# Altium footprint library PcbLib.Autolabor.PcbLib: 20 footprints (part 1 of 2)
Each footprint in its own frame and in the unit in brackets; x right, y up, seen from the top. Pads: shape width x height; smd on the part's side, far side on the other; paste and mask are expansions set on the pad; w line width, h text height; cw(c..) or ccw(c..) is an arc to the next point about the centre after c.
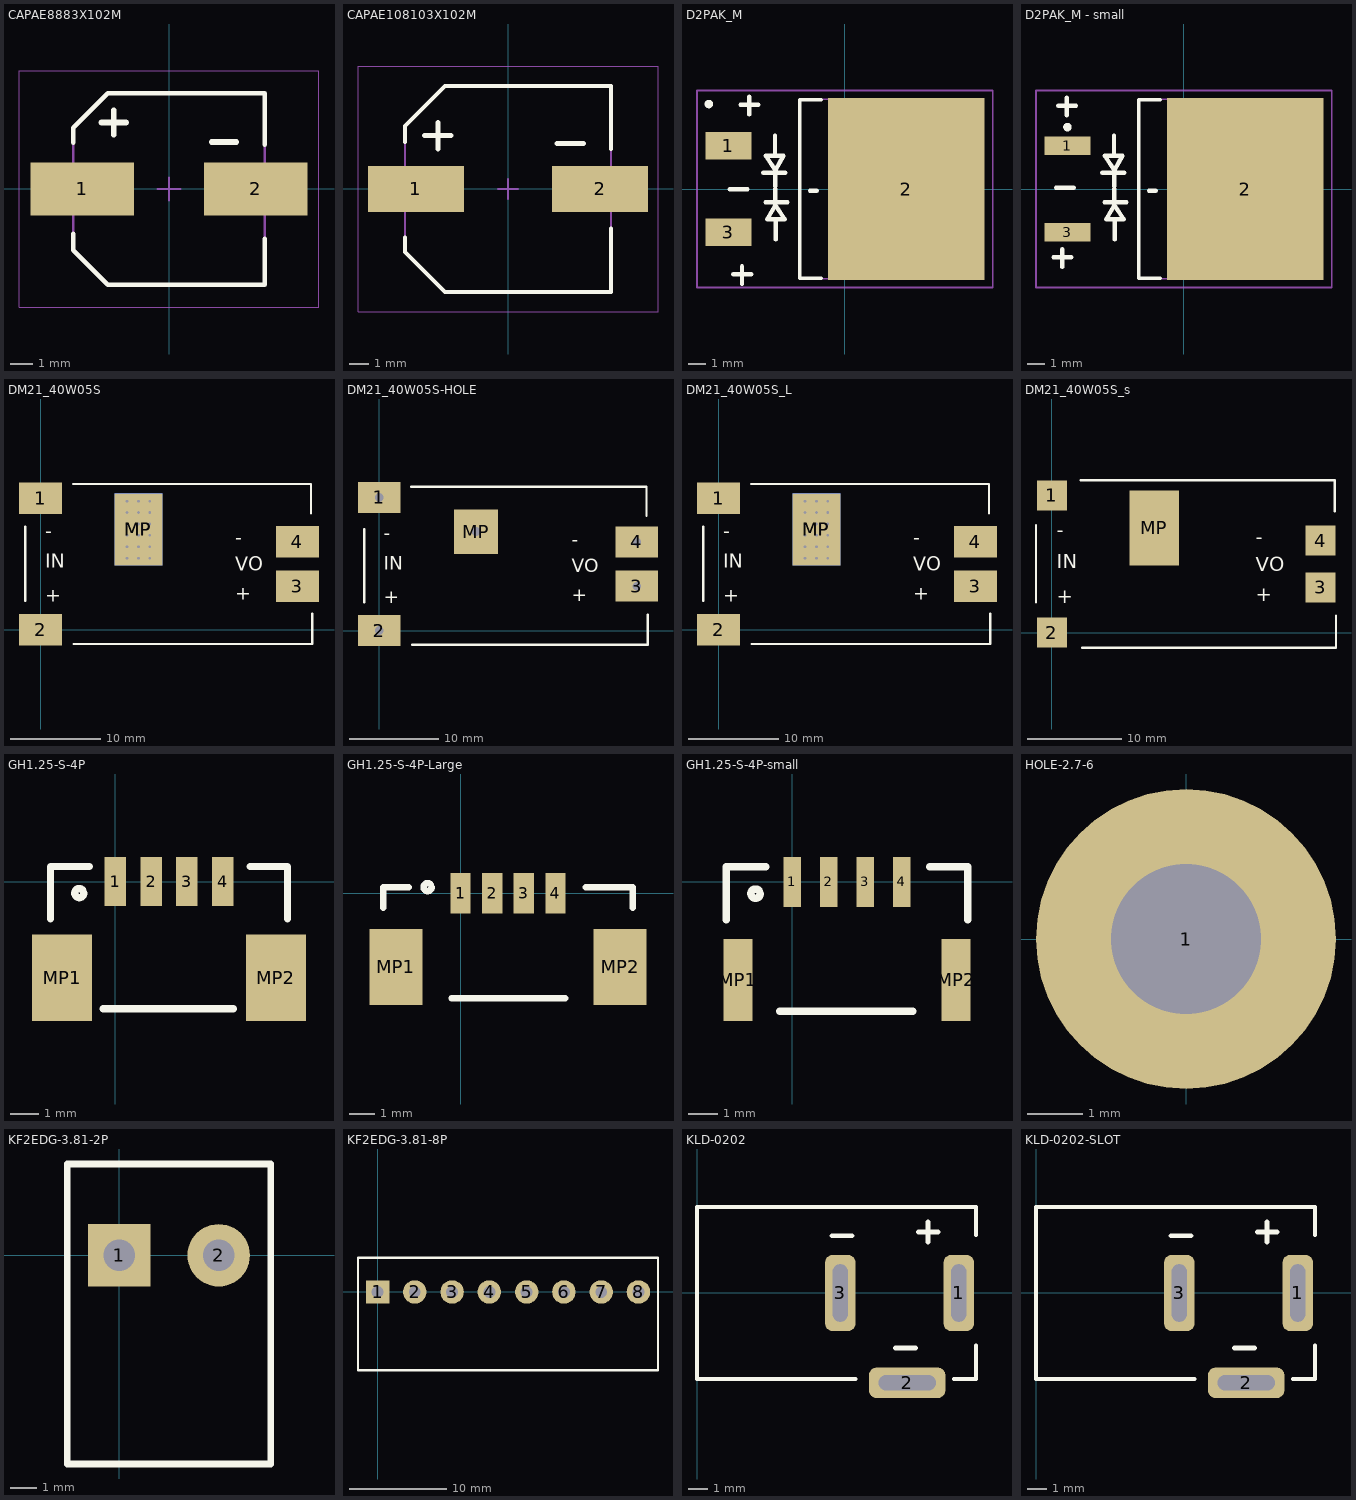
[diagram p0: the footprints below, top view; thin cyan lines are the x and y axes]

## CAPAE8883X102M [mm] "Aluminum Electrolytic Capacitor, Body 8.30x8.30x10.20mm, IPC Low Density"
height 10.2
pads (2):
  rect 4.6x2.35 smd: 1(-3.85,0) 2(3.85,0)
Top Overlay:
  lines w0.2: -4.25,-1.981 -4.25,-2.713 -2.713,-4.25 4.25,-4.25 4.25,-2.21 ; -4.25,2.057 -4.25,2.712 -2.713,4.25 4.25,4.25 4.25,1.956
  lines w0.254: -2.997,2.946 -1.905,2.946 ; -2.451,2.4 -2.451,3.492 ; 1.892,2.083 2.984,2.083
Mechanical 13:
  lines w0.1: -4.25,-2.713 -2.713,-4.25 4.25,-4.25 4.25,4.25 -2.713,4.25 -4.25,2.712 -4.25,-2.713
Mechanical 15:
  lines w0.05: -6.65,-5.25 -6.65,5.25 6.65,5.25 6.65,-5.25 -6.65,-5.25
  lines w0.1: -0.5,0 0.5,0 ; 0,-0.5 0,0.5
3D body "CAPAE8883X102M.step": height 10.2, standoff 0, extent -4.4,-4.25 4.4,4.25

## CAPAE108103X102M [mm] "Aluminum Electrolytic Capacitor, Body 10.30x10.30x10.20mm, IPC Low Density"
height 10.2
pads (2):
  rect 4.9x2.35 smd: 1(-4.7,0) 2(4.7,0)
Top Overlay:
  lines w0.2: -5.25,-2.464 -5.25,-3.213 -3.212,-5.25 5.25,-5.25 5.25,-2.007 ; -5.25,2.388 -5.25,3.212 -3.212,5.25 5.25,5.25 5.25,2.032
  lines w0.254: -4.267,2.718 -2.896,2.718 ; -3.581,2.032 -3.581,3.404 ; 2.489,2.311 3.861,2.311
Mechanical 13:
  lines w0.1: -5.25,-3.213 -5.25,3.212 -3.212,5.25 5.25,5.25 5.25,-5.25 -3.212,-5.25 -5.25,-3.213
Mechanical 15:
  lines w0.05: -7.65,-6.25 7.65,-6.25 7.65,6.25 -7.65,6.25 -7.65,-6.25
  lines w0.1: -0.5,0 0.5,0 ; 0,-0.5 0,0.5
3D body "CAPAE108103X102M.step": height 10.2, standoff 0, extent -5.4,-5.25 5.4,5.25

## D2PAK_M [mm] "D2-PAK, 4-Leads, Body 8.8x10.4mm, Pitch 2.54mm, Lead Span 15.1mm, IPC Low Density"
height 4.69
pads (3):
  rect 2.7x1.6 smd: 1(-6.85,2.54) 3(-6.85,-2.54)
  rect 9.2x10.7 smd: 2(3.6,0)
Top Overlay:
  circle w0.25: c-8,5 r0.125
  lines w0.2: -1.4,-5.25 -2.65,-5.25 -2.65,5.25 -1.4,5.25
  lines w0.254: -6.768,-0.024 -5.727,-0.024 ; -6.558,-5.013 -5.517,-5.013 ; -6.141,4.952 -5.1,4.952 ; -6.05,-5.585 -6.05,-4.543 ; -5.633,4.381 -5.633,5.422 ; -4.801,0.965 -3.505,0.965 ; -4.674,-0.787 -3.378,-0.787 ; -4.115,2.108 -4.115,3.15 ; -4.089,-0.787 -4.089,0 ; -4.089,0.178 -4.089,0.965 ; -4.064,-2.972 -4.064,-1.93 ; -2.05,-0.1 -1.65,-0.1 ; -4.648,1.956 -4.089,1.118 -3.607,1.956 -4.648,1.956 ; -4.572,-1.778 -3.531,-1.778 -4.089,-0.94 -4.572,-1.778
Mechanical 13:
  lines w0.1: -2.65,-5.275 6.35,-5.275 6.35,5.275 -2.65,5.275 -2.65,-5.275
Mechanical 15:
  lines w0.1: -0.5,0 0.5,0 ; 0,-0.5 0,0.5 ; -8.7,-5.8 8.7,-5.8 8.7,5.8 -8.7,5.8 -8.7,-5.8
3D body: height 4.69, standoff 0, extent -2.65,-5.275 6.35,5.275

## D2PAK_M - small [mm] "D2-PAK, 4-Leads, Body 8.8x10.4mm, Pitch 2.54mm, Lead Span 15.1mm, IPC Low Density"
height 4.69
pads (3):
  rect 2.7x1.1 smd: 1(-6.85,2.54) 3(-6.85,-2.54)
  rect 9.2x10.7 smd: 2(3.6,0)
Top Overlay:
  circle w0.25: c-6.85,3.64 r0.125
  lines w0.2: -1.4,-5.25 -2.65,-5.25 -2.65,5.25 -1.4,5.25
  lines w0.254: -7.671,-4.013 -6.629,-4.013 ; -7.518,0.076 -6.477,0.076 ; -7.391,4.902 -6.35,4.902 ; -7.163,-4.585 -7.163,-3.543 ; -6.883,4.331 -6.883,5.372 ; -4.801,0.965 -3.505,0.965 ; -4.674,-0.787 -3.378,-0.787 ; -4.115,2.108 -4.115,3.15 ; -4.089,-0.787 -4.089,0 ; -4.089,0.178 -4.089,0.965 ; -4.064,-2.972 -4.064,-1.93 ; -2.05,-0.1 -1.65,-0.1 ; -4.648,1.956 -4.089,1.118 -3.607,1.956 -4.648,1.956 ; -4.572,-1.778 -3.531,-1.778 -4.089,-0.94 -4.572,-1.778
Mechanical 13:
  lines w0.1: -2.65,-5.275 6.35,-5.275 6.35,5.275 -2.65,5.275 -2.65,-5.275
Mechanical 15:
  lines w0.1: -0.5,0 0.5,0 ; 0,-0.5 0,0.5 ; -8.7,-5.8 8.7,-5.8 8.7,5.8 -8.7,5.8 -8.7,-5.8
3D body: height 4.69, standoff 0, extent -2.65,-5.275 6.35,5.275

## DM21_40W05S [mm]
pads (6):
  rect 4.8x3.5 smd: 1(0,14.6) 2(0,0) 3(28.6,4.8) 4(28.6,9.8)
  rect 5.3x8 smd: MP(10.9,11.15)
  rect 5.3x8 smd far side: MP(10.9,11.15)
via 12.17,7.95 diameter 0.6 hole 0.3
via 12.17,9.22 diameter 0.6 hole 0.3
via 12.17,10.49 diameter 0.6 hole 0.3
via 12.17,11.76 diameter 0.6 hole 0.3
via 12.17,13.03 diameter 0.6 hole 0.3
via 10.9,7.95 diameter 0.6 hole 0.3
via 10.9,9.22 diameter 0.6 hole 0.3
via 10.9,10.49 diameter 0.6 hole 0.3
via 10.9,11.76 diameter 0.6 hole 0.3
via 10.9,13.03 diameter 0.6 hole 0.3
via 10.9,14.3 diameter 0.6 hole 0.3
via 12.17,14.3 diameter 0.6 hole 0.3
via 9.63,14.3 diameter 0.6 hole 0.3
via 9.63,13.03 diameter 0.6 hole 0.3
via 9.63,11.76 diameter 0.6 hole 0.3
via 9.63,10.49 diameter 0.6 hole 0.3
via 9.63,9.22 diameter 0.6 hole 0.3
via 9.63,7.95 diameter 0.6 hole 0.3
Top Overlay:
  lines w0.254: -1.702,3.2 -1.702,11.455 ; 3.6,16.2 30.1,16.2 30.1,12.929 ; 3.7,-1.6 30.25,-1.6 30.25,1.778
  text "IN" at 0.508,6.858 h1.52
  text "VO" at 21.692,6.553 h1.52
  text "-" at 0.508,10.211 h1.52
  text "-" at 21.692,9.474 h1.52
  text "+" at 0.508,3.099 h1.52
  text "+" at 21.692,3.327 h1.52

## DM21_40W05S-HOLE [mm]
pads (5):
  rect 4.8x3.5 hole 1: 1(0,15) 2(0,0) 3(29,5) 4(29,10)
  rect 5x5 hole 1: MP(10.9,11.15)
Top Overlay:
  lines w0.254: -1.702,3.2 -1.702,11.455 ; 3.6,16.2 30.1,16.2 30.1,12.929 ; 3.7,-1.6 30.25,-1.6 30.25,1.778
  text "+" at 21.692,3.327 h1.52
  text "+" at 0.508,3.099 h1.52
  text "-" at 21.692,9.474 h1.52
  text "-" at 0.508,10.211 h1.52
  text "VO" at 21.692,6.553 h1.52
  text "IN" at 0.508,6.858 h1.52

## DM21_40W05S_L [mm]
pads (6):
  rect 4.8x3.5 smd: 1(0,14.6) 2(0,0) 3(28.6,4.8) 4(28.6,9.8)
  rect 5.3x8 smd: MP(10.9,11.15)
  rect 5.3x8 smd far side: MP(10.9,11.15)
via 12.17,7.95 diameter 0.6 hole 0.3
via 12.17,9.22 diameter 0.6 hole 0.3
via 12.17,10.49 diameter 0.6 hole 0.3
via 12.17,11.76 diameter 0.6 hole 0.3
via 12.17,13.03 diameter 0.6 hole 0.3
via 10.9,7.95 diameter 0.6 hole 0.3
via 10.9,9.22 diameter 0.6 hole 0.3
via 10.9,10.49 diameter 0.6 hole 0.3
via 10.9,11.76 diameter 0.6 hole 0.3
via 10.9,13.03 diameter 0.6 hole 0.3
via 10.9,14.3 diameter 0.6 hole 0.3
via 12.17,14.3 diameter 0.6 hole 0.3
via 9.63,14.3 diameter 0.6 hole 0.3
via 9.63,13.03 diameter 0.6 hole 0.3
via 9.63,11.76 diameter 0.6 hole 0.3
via 9.63,10.49 diameter 0.6 hole 0.3
via 9.63,9.22 diameter 0.6 hole 0.3
via 9.63,7.95 diameter 0.6 hole 0.3
Top Overlay:
  lines w0.254: -1.702,3.2 -1.702,11.455 ; 3.6,16.2 30.1,16.2 30.1,12.929 ; 3.7,-1.6 30.25,-1.6 30.25,1.778
  text "IN" at 0.508,6.858 h1.52
  text "VO" at 21.692,6.553 h1.52
  text "-" at 0.508,10.211 h1.52
  text "-" at 21.692,9.474 h1.52
  text "+" at 0.508,3.099 h1.52
  text "+" at 21.692,3.327 h1.52

## DM21_40W05S_s [mm]
pads (5):
  rect 3.2x3.2 smd: 1(0,14.6) 2(0,0) 3(28.6,4.8) 4(28.6,9.8)
  rect 5.3x8 smd: MP(10.9,11.15)
Top Overlay:
  lines w0.254: -1.702,3.2 -1.702,11.455 ; 3.073,16.2 30.1,16.2 30.1,12.929 ; 3.2,-1.6 30.25,-1.6 30.25,1.778
  text "+" at 21.692,3.327 h1.52
  text "+" at 0.508,3.099 h1.52
  text "-" at 21.692,9.474 h1.52
  text "-" at 0.508,10.211 h1.52
  text "VO" at 21.692,6.553 h1.52
  text "IN" at 0.508,6.858 h1.52

## GH1.25-S-4P [mm]
pads (6):
  rect 0.75x1.7 smd: 1(0,0) 2(1.25,0) 3(2.5,0) 4(3.75,0)
  rect 2.1x3 smd: MP1(-1.85,-3.35) MP2(5.6,-3.35)
Top Overlay:
  lines w0.254: -2.25,-1.3 -2.25,0.525 -0.9,0.525 ; -1.118,-0.312 ccw(c-1.25,-0.4) -1.092,-0.4 ; -0.425,-4.425 0.875,-4.425 4.125,-4.425 ; 4.7,0.525 6,0.525 6,-1.3

## GH1.25-S-4P-Large [mm]
pads (6):
  rect 0.8x1.6 smd: 1(0,0) 2(1.25,0) 3(2.5,0) 4(3.75,0)
  rect 2.1x3 smd: MP1(-2.55,-2.9) MP2(6.3,-2.9)
Top Overlay:
  lines w0.254: -3.05,-0.559 -3.05,0 -3.05,0.25 -2.05,0.25 ; -1.168,0.338 ccw(c-1.3,0.25) -1.142,0.25 ; -0.356,-4.14 4.14,-4.14 ; 4.953,0.25 6.8,0.25 ; 6.8,-0.559 6.8,0.25 ; 6.8,0 6.8,0.25

## GH1.25-S-4P-small [mm]
pads (6):
  rect 0.6x1.7 smd: 1(0,0) 2(1.25,0) 3(2.5,0) 4(3.75,0)
  rect 1x2.8 smd: MP1(-1.85,-3.35) MP2(5.6,-3.35)
Top Overlay:
  lines w0.254: -2.25,-1.3 -2.25,0.525 -0.9,0.525 ; -1.118,-0.312 ccw(c-1.25,-0.4) -1.092,-0.4 ; -0.425,-4.425 0.875,-4.425 4.125,-4.425 ; 4.7,0.525 6,0.525 6,-1.3

## HOLE-2.7-6 [mm]
pads (1):
  round 5.4 hole 2.7: 1(0,0)

## KF2EDG-3.81-2P [mm]
pads (2):
  rect 2.4x2.4 hole 1.21: 1(0,0)
  round 2.4 hole 1.21: 2(3.81,0)
Top Overlay:
  lines w0.254: -2,-5.9 -2,0 ; 5.81,-4.4 5.81,0 ; -2,-8 5.8,-8 5.8,-6.35 5.8,3.5 0,3.5 -2,3.5 -2,-8

## KF2EDG-3.81-8P [mm]
pads (8):
  rect 2.4x2.4 hole 1.21: 1(0,0)
  round 2.4 hole 1.21: 2(3.81,0) 3(7.62,0) 4(11.43,0) 5(15.24,0) 6(19.05,0) 7(22.86,0) 8(26.67,0)
Top Overlay:
  lines w0.254: -2,-5.9 -2,0 ; 0,-8 26.67,-8 ; 26.1,3.5 28.67,3.5 28.67,-8 -2,-8 -2,3.5 0,3.5 26.67,3.5 ; 28.67,-6.15 28.67,0

## KLD-0202 [mm] "DC Power Jack, 2.5mm, KLD Series, PCB Mount"
pads (3):
  rrect50% 1.6x4 hole 0.8 slot 3 at 90 deg: 1(13.7,0) 3(7.5,0)
  rrect50% 4x1.6 hole 0.8 slot 3 at 0 deg: 2(11,-4.7)
Top Overlay:
  lines w0.2: 8.3,-4.5 0,-4.5 0,4.5 14.6,4.5 14.6,3.023 ; 13.437,-4.5 14.6,-4.5 14.6,-2.743
  lines w0.254: 7.061,2.997 8.103,2.997 ; 10.389,-2.87 11.43,-2.87 ; 11.582,3.2 12.624,3.2 ; 12.09,2.667 12.09,3.708

## KLD-0202-SLOT [mm] "DC Power Jack, 2.5mm, KLD Series, PCB Mount"
pads (3):
  rrect50% 1.6x4 hole 0.8 slot 3 at 90 deg: 1(13.7,0) 3(7.5,0)
  rrect50% 4x1.6 hole 0.8 slot 3 at 0 deg: 2(11,-4.7)
Top Overlay:
  lines w0.2: 8.3,-4.5 0,-4.5 0,4.5 14.6,4.5 14.6,3.023 ; 13.437,-4.5 14.6,-4.5 14.6,-2.743
  lines w0.254: 7.061,2.997 8.103,2.997 ; 10.389,-2.87 11.43,-2.87 ; 11.582,3.2 12.624,3.2 ; 12.09,2.667 12.09,3.708